# Altium footprint library sx1278.PcbLib: 2 footprints
Each footprint in its own frame and in the unit in brackets; x right, y up, seen from the top. Pads: shape width x height; smd on the part's side, far side on the other; paste and mask are expansions set on the pad; w line width, h text height; cw(c..) or ccw(c..) is an arc to the next point about the centre after c.
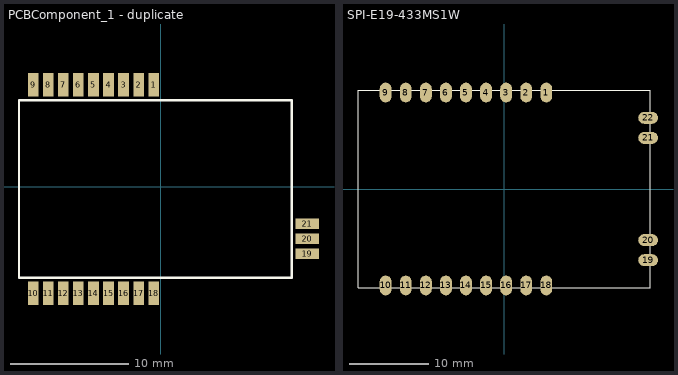
[diagram p0: the footprints below, top view; thin cyan lines are the x and y axes]

## PCBComponent_1 - duplicate [mm]
pads (21):
  rect 0.9x2 smd: 1(-0.607,8.623) 2(-1.877,8.623) 3(-3.147,8.623) 4(-4.417,8.623) 5(-5.687,8.623) 6(-6.957,8.623) 7(-8.227,8.623) 8(-9.497,8.623) 9(-10.767,8.623) 10(-10.767,-8.977) 11(-9.497,-8.977) 12(-8.227,-8.977) 13(-6.957,-8.977) 14(-5.687,-8.977) 15(-4.417,-8.977) 16(-3.147,-8.977) 17(-1.877,-8.977) 18(-0.607,-8.977)
  rect 2x0.9 smd: 19(12.333,-5.647) 20(12.333,-4.377) 21(12.333,-3.107)
Top Overlay:
  lines w0.2: -11.967,-7.677 -11.967,7.323 11.033,7.323 11.033,-7.677 -11.967,-7.677

## SPI-E19-433MS1W [mm]
pads (22):
  oval 1.5x2.5 smd: 1(5.32,12.2) 2(2.78,12.2) 3(0.24,12.2) 4(-2.3,12.2) 5(-4.84,12.2) 6(-7.38,12.2) 7(-9.92,12.2) 8(-12.46,12.2) 9(-15,12.2) 10(-15,-12.2) 11(-12.46,-12.2) 12(-9.92,-12.2) 13(-7.38,-12.2) 14(-4.84,-12.2) 15(-2.3,-12.2) 16(0.24,-12.2) 17(2.78,-12.2) 18(5.32,-12.2)
  oval 2.5x1.5 smd: 19(18.2,-9) 20(18.2,-6.46) 21(18.2,6.46) 22(18.2,9)
Top Overlay:
  lines w0.1: -18.5,-12.5 -18.5,12.5 18.5,12.5 18.5,-12.5 -18.5,-12.5